# Altium schematic symbol library 2N7002.SchLib: 2 symbols
Pins are listed as number, name and electrical type; pins without a type are passive.

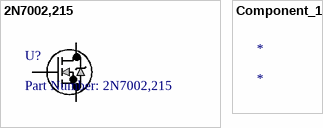
[diagram p0: symbols 2N7002,215 to Component_1]

## 2N7002,215
designator U?, comment Part Number: 2N7002,215
No Description Available; Vendor: Nexperia; Manufacturer_Part_Number: 2N7002,215; Copyright: Copyright (C) 2016 Accelerated Designs. All rights reserved; RefDes: RefDes; Type: DEV; Value: Value
footprint TO-236AB
pins: 1, 2 3, 3 2

## Component_1
designator *